# Altium integrated library LM3150_BuckConverter.IntLib: 8 symbols
Pins are listed as number, name and electrical type; pins without a type are passive.

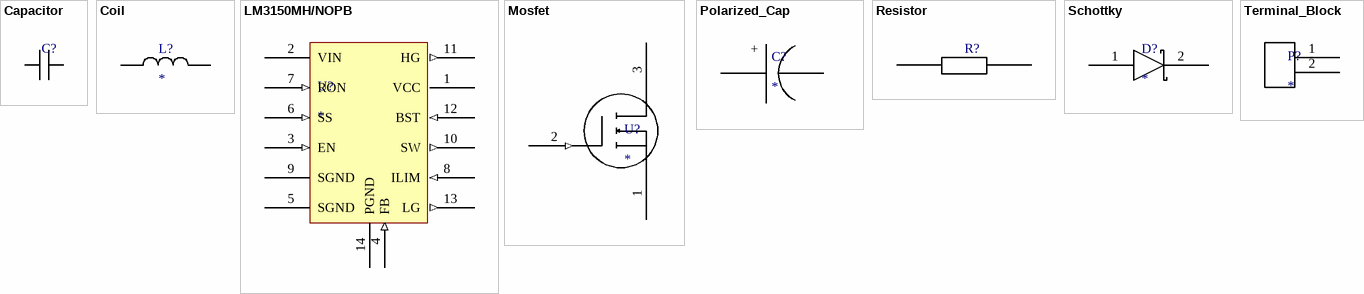
[diagram p0: symbols Capacitor to Terminal_Block]

## Capacitor
designator C?  (value not drawn)
Manufacturer: *; Manufacturer part number: *
footprint C1206
footprint C0805
footprint C0603
footprint C0402
pins: 1, 2

## Coil
designator L?
Manufacturer: KEMET; Manufacturer Product Number: MPCV1060L1R0
footprint MPCV1060L1R0
pins: 1, 2

## LM3150MH/NOPB
designator U?
Manufacturer: Texas Instruments; Manufacturer part number: LM3150MHNOPB
footprint LM3150MH/NOPB
pins: 1 VCC (power), 2 VIN (power), 3 EN (in), 4 FB (in), 5 SGND (power), 6 SS (in), 7 RON (in), 8 ILIM (in), 9 SGND (power), 10 SW (out), 11 HG (out), 12 BST (in), 13 LG (out), 14 PGND (power)

## Mosfet
designator U?
footprint CSD18540Q5B
footprint IRF7809AVTRPBF
footprint CSD17303Q5
pins: 1 S (power), 2 G (in), 3 D (power)

## Polarized_Cap
designator C?
Manufacturer: *; Manufacturer Product Number: *
footprint A765EB157M0JLAE020
footprint Cap860010675016
pins: 1 +, 2 -

## Resistor
designator R?
Manufacturer: *; Manufacturer part number: *
footprint R0402
footprint R0603
footprint R1206
footprint R0805
pins: 1, 2

## Schottky
designator D?
Manufacturer part number: *; Manufacturer: *
footprint CUS08F30
pins: 1 -, 2 +

## Terminal_Block
designator P?
Manufacturer: *; Manufacturer part number: *
footprint TB006-508-02BE
pins: 1 *, 2 *